# EAGLE library part TS5A3359 (library Mine)
SP3T Analogue Multiplexer
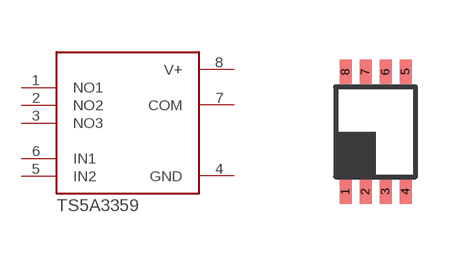
[diagram p0: symbol with the pads of DCU_R-PDSO-G8; footprint DCU_R-PDSO-G8]

Designator prefix -

## TS5A3359  [DCU_R-PDSO-G8]
1  NO1
2  NO2
3  NO3
4  GND  pwr
5  IN2  in
6  IN1  in
7  COM
8  V+  pwr

## Footprint DCU_R-PDSO-G8 (pad centres in mm)
DCU (R-PDSO-G8) PLASTIC SMALL-OUTLINE PACKAGE (DIE DOWN) Source: http://focus.ti.com/lit/ds/symlink/sn74lvc2g53.pdf
smd 0.3 x 0.6: 1 -0.75,-1.5; 2 -0.25,-1.5; 3 0.25,-1.5; 4 0.75,-1.5; 5 0.75,1.5; 6 0.25,1.5; 7 -0.25,1.5; 8 -0.75,1.5